# Altium footprint library 74HC595.PcbLib: 1 footprints
Each footprint in its own frame and in the unit in brackets; x right, y up, seen from the top. Pads: shape width x height; smd on the part's side, far side on the other; paste and mask are expansions set on the pad; w line width, h text height; cw(c..) or ccw(c..) is an arc to the next point about the centre after c.
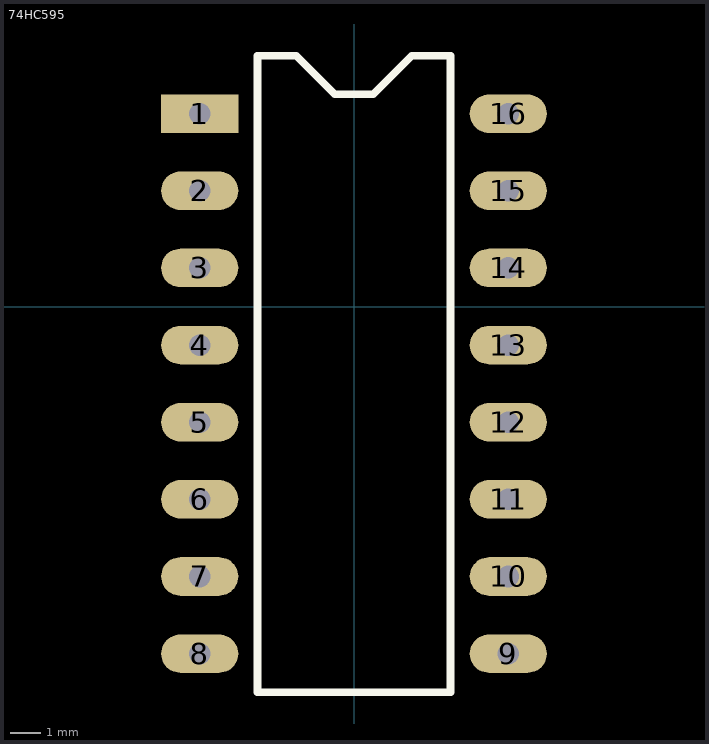
[diagram p0: the footprint, top view; thin cyan lines are the x and y axes]

## 74HC595 [mil]
height 157.48
pads (16):
  rect 100x50 hole 28: 1(-200,250)
  oval 100x50 hole 28: 2(-200,150) 3(-200,50) 4(-200,-50) 5(-200,-150) 6(-200,-250) 7(-200,-350) 8(-200,-450) 9(200,-450) 10(200,-350) 11(200,-250) 12(200,-150) 13(200,-50) 14(200,50) 15(200,150) 16(200,250)
Top Overlay:
  lines w10: -125,-500 -125,325 -75,325 -25,275 25,275 75,325 125,325 125,-500 -125,-500